# Altium schematic symbol library MCU_STC.SchLib: 6 symbols
Pins are listed as number, name and electrical type; pins without a type are passive.

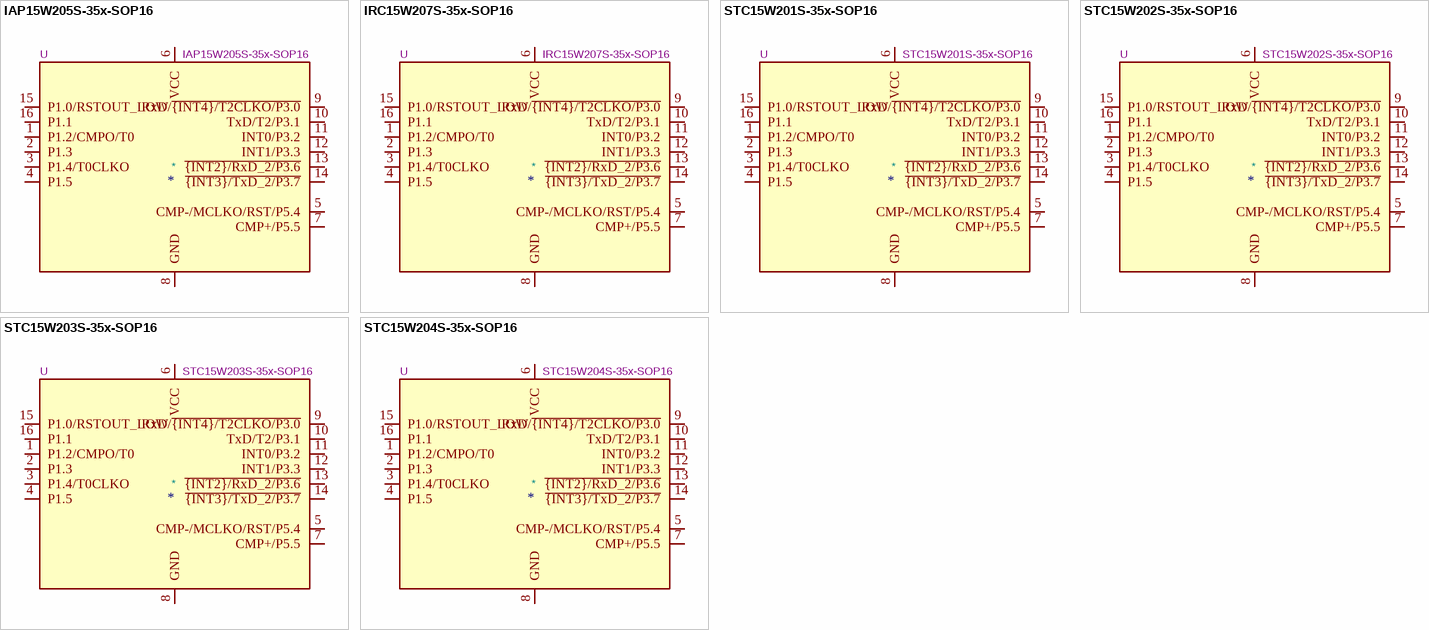
[diagram p0: symbols IAP15W205S-35x-SOP16 to STC15W204S-35x-SOP16]

## IAP15W205S-35x-SOP16
designator *  value IAP15W205S-35x-SOP16  Reference: U
ki_keywords: STC, 8051, microcontroller; ki_description: Single Chip MCU based on the 8051 architecture, 5KB Flash, unified program/data memory, SOP-16; ki_fp_filters: STC?SOP*3.9x9.9mm*P1.27mm*; Footprint: Package_SO:STC_SOP-16_3.9x9.9mm_P1.27mm; Datasheet: www.stcmicro.com/datasheet/STC15F2K60S2-en.pdf
pins: 1 P1.2/CMPO/T0, 2 P1.3, 3 P1.4/T0CLKO, 4 P1.5, 5 CMP-/MCLKO/RST/P5.4, 6 VCC, 7 CMP+/P5.5, 8 GND, 9 RxD/~{{INT4}/T2CLKO/P3.0}, 10 TxD/T2/P3.1, 11 INT0/P3.2, 12 INT1/P3.3, 13 ~{{INT2}/RxD_2/P3.6}, 14 ~{{INT3}/TxD_2/P3.7}, 15 P1.0/RSTOUT_LOW, 16 P1.1

## IRC15W207S-35x-SOP16
designator *  value IRC15W207S-35x-SOP16  Reference: U
ki_keywords: STC, 8051, microcontroller; ki_description: Single Chip MCU based on the 8051 architecture, 7.5KB Flash, unified program/data memory, fixed 24MHz Clock, SOP-16; ki_fp_filters: STC?SOP*3.9x9.9mm*P1.27mm*; Footprint: Package_SO:STC_SOP-16_3.9x9.9mm_P1.27mm; Datasheet: www.stcmicro.com/datasheet/STC15F2K60S2-en.pdf
pins: 1 P1.2/CMPO/T0, 2 P1.3, 3 P1.4/T0CLKO, 4 P1.5, 5 CMP-/MCLKO/RST/P5.4, 6 VCC, 7 CMP+/P5.5, 8 GND, 9 RxD/~{{INT4}/T2CLKO/P3.0}, 10 TxD/T2/P3.1, 11 INT0/P3.2, 12 INT1/P3.3, 13 ~{{INT2}/RxD_2/P3.6}, 14 ~{{INT3}/TxD_2/P3.7}, 15 P1.0/RSTOUT_LOW, 16 P1.1

## STC15W201S-35x-SOP16
designator *  value STC15W201S-35x-SOP16  Reference: U
ki_keywords: STC 8051 microcontroller; ki_description: Single Chip MCU based on the 8051 architecture, 1KB Flash, 4KB EEPROM, SOP-16; ki_fp_filters: STC?SOP*3.9x9.9mm*P1.27mm*; Footprint: Package_SO:STC_SOP-16_3.9x9.9mm_P1.27mm; Datasheet: www.stcmicro.com/datasheet/STC15F2K60S2-en.pdf
pins: 1 P1.2/CMPO/T0, 2 P1.3, 3 P1.4/T0CLKO, 4 P1.5, 5 CMP-/MCLKO/RST/P5.4, 6 VCC, 7 CMP+/P5.5, 8 GND, 9 RxD/~{{INT4}/T2CLKO/P3.0}, 10 TxD/T2/P3.1, 11 INT0/P3.2, 12 INT1/P3.3, 13 ~{{INT2}/RxD_2/P3.6}, 14 ~{{INT3}/TxD_2/P3.7}, 15 P1.0/RSTOUT_LOW, 16 P1.1

## STC15W202S-35x-SOP16
designator *  value STC15W202S-35x-SOP16  Reference: U
ki_keywords: STC, 8051, microcontroller; ki_description: Single Chip MCU based on the 8051 architecture, 2KB Flash, 3KB EEPROM, SOP-16; ki_fp_filters: STC?SOP*3.9x9.9mm*P1.27mm*; Footprint: Package_SO:STC_SOP-16_3.9x9.9mm_P1.27mm; Datasheet: www.stcmicro.com/datasheet/STC15F2K60S2-en.pdf
pins: 1 P1.2/CMPO/T0, 2 P1.3, 3 P1.4/T0CLKO, 4 P1.5, 5 CMP-/MCLKO/RST/P5.4, 6 VCC, 7 CMP+/P5.5, 8 GND, 9 RxD/~{{INT4}/T2CLKO/P3.0}, 10 TxD/T2/P3.1, 11 INT0/P3.2, 12 INT1/P3.3, 13 ~{{INT2}/RxD_2/P3.6}, 14 ~{{INT3}/TxD_2/P3.7}, 15 P1.0/RSTOUT_LOW, 16 P1.1

## STC15W203S-35x-SOP16
designator *  value STC15W203S-35x-SOP16  Reference: U
ki_keywords: STC, 8051, microcontroller; ki_description: Single Chip MCU based on the 8051 architecture, 3KB Flash, 2KB EEPROM, SOP-16; ki_fp_filters: STC?SOP*3.9x9.9mm*P1.27mm*; Footprint: Package_SO:STC_SOP-16_3.9x9.9mm_P1.27mm; Datasheet: www.stcmicro.com/datasheet/STC15F2K60S2-en.pdf
pins: 1 P1.2/CMPO/T0, 2 P1.3, 3 P1.4/T0CLKO, 4 P1.5, 5 CMP-/MCLKO/RST/P5.4, 6 VCC, 7 CMP+/P5.5, 8 GND, 9 RxD/~{{INT4}/T2CLKO/P3.0}, 10 TxD/T2/P3.1, 11 INT0/P3.2, 12 INT1/P3.3, 13 ~{{INT2}/RxD_2/P3.6}, 14 ~{{INT3}/TxD_2/P3.7}, 15 P1.0/RSTOUT_LOW, 16 P1.1

## STC15W204S-35x-SOP16
designator *  value STC15W204S-35x-SOP16  Reference: U
ki_keywords: STC, 8051, microcontroller; ki_description: Single Chip MCU based on the 8051 architecture, 4KB Flash, 1KB EEPROM, SOP-16; ki_fp_filters: STC?SOP*3.9x9.9mm*P1.27mm*; Footprint: Package_SO:STC_SOP-16_3.9x9.9mm_P1.27mm; Datasheet: www.stcmicro.com/datasheet/STC15F2K60S2-en.pdf
pins: 1 P1.2/CMPO/T0, 2 P1.3, 3 P1.4/T0CLKO, 4 P1.5, 5 CMP-/MCLKO/RST/P5.4, 6 VCC, 7 CMP+/P5.5, 8 GND, 9 RxD/~{{INT4}/T2CLKO/P3.0}, 10 TxD/T2/P3.1, 11 INT0/P3.2, 12 INT1/P3.3, 13 ~{{INT2}/RxD_2/P3.6}, 14 ~{{INT3}/TxD_2/P3.7}, 15 P1.0/RSTOUT_LOW, 16 P1.1